# EAGLE library part MAX253CPA (library eko-parts)
MAX 253 in PDIP 8 http://datasheets.maxim-ic.com/en/ds/MAX253.pdf
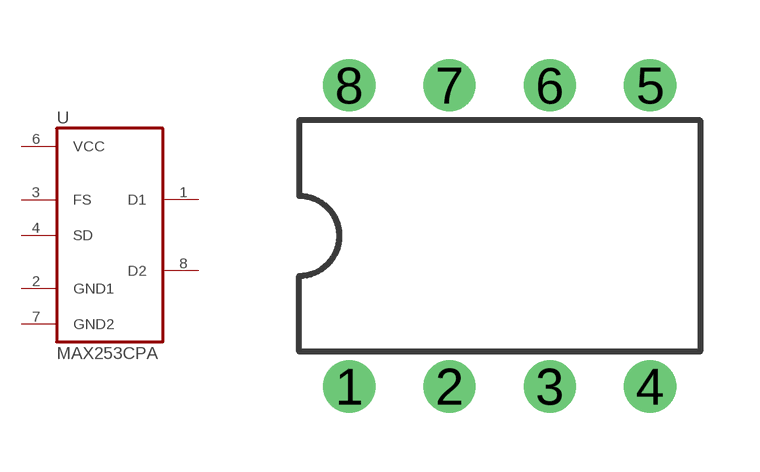
[diagram p0: symbol with the pads of DIL08; footprint DIL08]

Designator prefix -

## MAX253CPA  [DIL08]
1  D1  out
2  GND1  pas
3  FS  in
4  SD  in
6  VCC  pwr
7  GND2  pas
8  D2  out

## Footprint DIL08 (pad centres in mm)
drill 0.813 pad 1.27: 1 -3.81,-3.81; 2 -1.27,-3.81; 3 1.27,-3.81; 4 3.81,-3.81; 5 3.81,3.81; 6 1.27,3.81; 7 -1.27,3.81; 8 -3.81,3.81